# EAGLE library part XQ-02A (library UNKNOWN-2024)
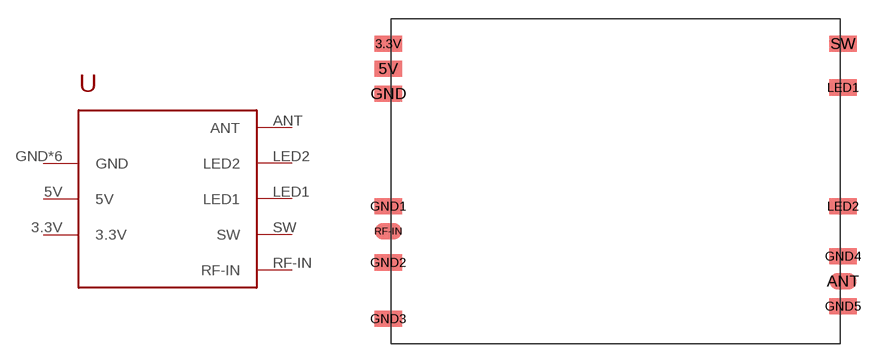
[diagram p8: symbol with the pads of XQ-02A; footprint XQ-02A]

Designator prefix -

## XQ-02A  [XQ-02A]
3.3V  3.3V
5V  5V
ANT  ANT
GND  GND
GND1  GND
GND2  GND
GND3  GND
GND4  GND
GND5  GND
LED1  LED1
LED2  LED2
RF-IN  RF-IN
SW  SW

## Footprint XQ-02A (pad centres in mm)
smd 2.2 x 1.3: 3.3V -18.2,11; 5V -18.2,9; ANT 18.2,-8; GND -18.2,7; GND1 -18.2,-2; GND2 -18.2,-6.5; GND3 -18.2,-11; GND4 18.2,-6; GND5 18.2,-10; LED1 18.2,7.5; LED2 18.2,-2; RF-IN -18.2,-4; SW 18.2,11